# Altium integrated library TE_Connectors.IntLib: 2 symbols
Pins are listed as number, name and electrical type; pins without a type are passive.

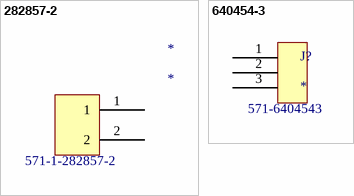
[diagram p0: symbols 282857-2 to 640454-3]

## 282857-2
designator *  Supplier Part Number 1: 571-1-282857-2
Supplier 1: Mouser
footprint 282857-2 (TE CONNECTIVITY / BUCHANAN  282857-2  Wire-To-Board Terminal Block, 2, 300 V, 24 A, 30 AWG, 12 AWG, 3 mm²)
pins: 1, 2

## 640454-3
designator J?  Supplier Part Number 1: 571-6404543
Headers & Wire Housings POLARIZED HEADER 3P Straight Post tin; Supplier 1: Mouser
footprint 6404543 (Headers & Wire Housings POLARIZED HEADER 3P Straight Post tin)
pins: 1, 2, 3